# Altium schematic symbol library SCH - FET - N-CH - ROHM MOSFET N-CH SC-89.SCHLIB: 1 symbol
Pins are listed as number, name and electrical type; pins without a type are passive.

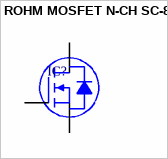
[diagram p0: symbol ROHM MOSFET N-CH SC-89]

## ROHM MOSFET N-CH SC-89
designator IC?
pins: 1 G, 2 S, 3 D